# Altium schematic symbol library THVD2450DR.SchLib: 1 symbol
Pins are listed as number, name and electrical type; pins without a type are passive.

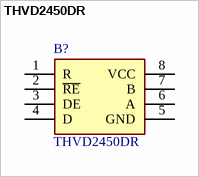
[diagram p0: symbol THVD2450DR]

## THVD2450DR
designator B?
+/-70-V fault-protected 3.3-V to 5-V RS-485 transceiver with IEC ESD; Manufacturer_Name: Texas Instruments; Geometry.Height: 1.75mm; Mouser Part Number: 595-THVD2450DR; Mouser Price/Stock: https://www.mouser.co.uk/ProductDetail/Texas-Instruments/THVD2450DR?qs=%252B6g0mu59x7KnRZ8zf%2FOjqQ%3D%3D; Manufacturer_Part_Number: THVD2450DR; Datasheet Link: http://www.ti.com/lit/gpn/THVD2450
footprint SOIC127P600X175-8N
pins: 1 R, 2 ~{RE}, 3 DE, 4 D, 5 GND, 6 A, 7 B, 8 VCC